# Altium footprint library WreckerCar_PcbLib.PcbLib: 65 footprints (part 5 of 5)
Each footprint in its own frame and in the unit in brackets; x right, y up, seen from the top. Pads: shape width x height; smd on the part's side, far side on the other; paste and mask are expansions set on the pad; w line width, h text height; cw(c..) or ccw(c..) is an arc to the next point about the centre after c.
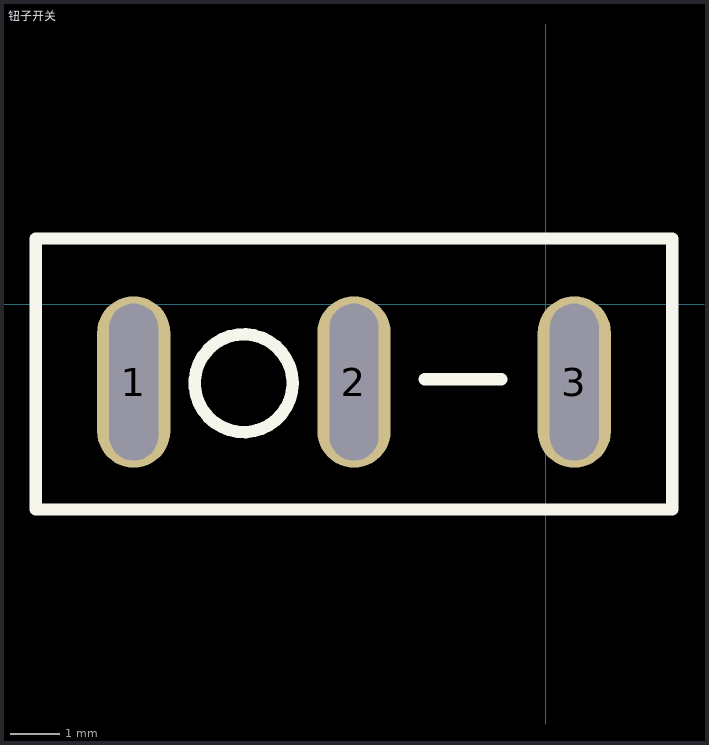
[diagram p4: the footprint, top view; thin cyan lines are the x and y axes]

## 钮子开关 [mm]
pads (3):
  oval 1.5x3.5 hole 1 slot 3.2 at 90 deg: 1(-8.414,-1.587) 2(-3.914,-1.587) 3(0.586,-1.587)
Top Overlay:
  circle w0.254: c-6.167,-1.61 r1
  lines w0.254: -2.472,-1.532 -0.908,-1.532 ; -10.414,-4.191 2.586,-4.191 2.586,1.346 -10.414,1.346 -10.414,-4.191